# Altium footprint library SOT.PcbLib: 6 footprints
Each footprint in its own frame and in the unit in brackets; x right, y up, seen from the top. Pads: shape width x height; smd on the part's side, far side on the other; paste and mask are expansions set on the pad; w line width, h text height; cw(c..) or ccw(c..) is an arc to the next point about the centre after c.
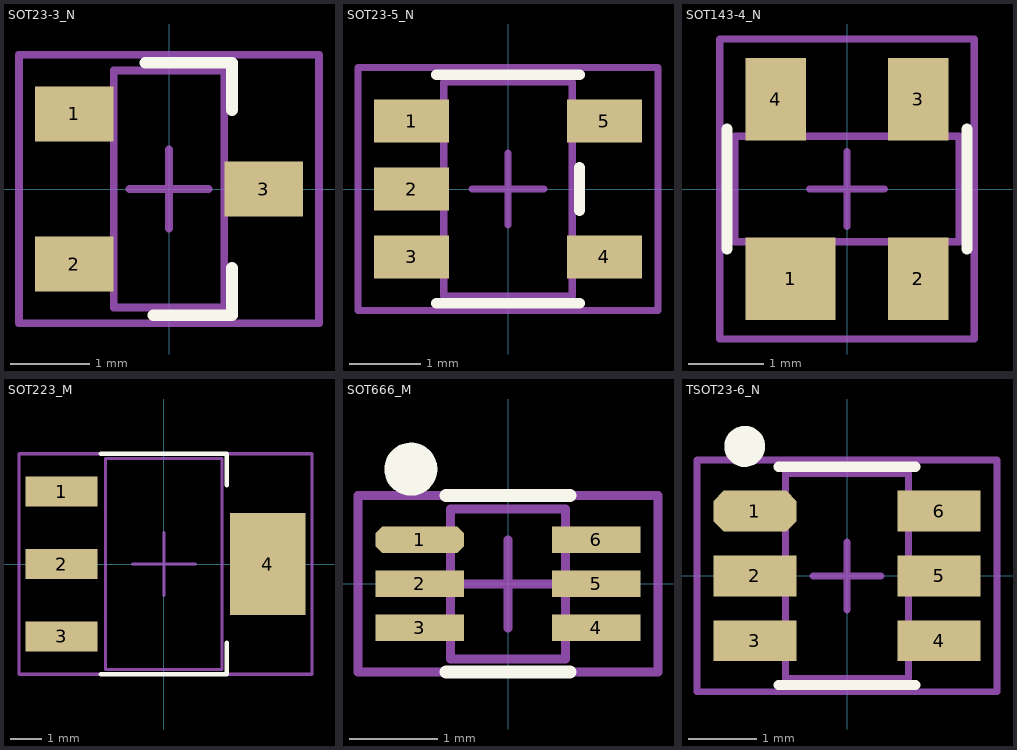
[diagram p0: the footprints below, top view; thin cyan lines are the x and y axes]

## SOT23-3_N [mm] "SOT23, 3-Leads, Body 1.4x3mm, Lead Span 2.6mm, IPC Medium Density"
height 1.1
pads (3):
  rect 1x0.7 smd: 1(-1.2,0.95) 2(-1.2,-0.95) 3(1.2,0)
Top Overlay:
  lines w0.15: -0.3,1.6 0.8,1.6 0.8,1 ; -0.2,-1.6 0.8,-1.6 0.8,-1
Mechanical 13:
  lines w0.1: -0.7,-1.5 -0.7,1.5 0.7,1.5 0.7,-1.5 -0.7,-1.5
Mechanical 15:
  lines w0.1: -0.5,0 0.5,0 ; 0,-0.5 0,0.5 ; -1.9,-1.7 1.9,-1.7 1.9,1.7 -1.9,1.7 -1.9,-1.7
3D body: height 1.1, standoff 0.1, extent -0.7,-1.5 0.7,1.5

## SOT23-5_N [mm] "SOT23, 5-Leads, Body 1.6x3mm, Lead Span 3mm, IPC Medium Density"
height 1.45
pads (5):
  rect 1.05x0.6 smd: 1(-1.35,0.95) 2(-1.35,0) 3(-1.35,-0.95) 4(1.35,-0.95) 5(1.35,0.95)
Top Overlay:
  lines w0.15: -1,-1.6 1,-1.6 ; -1,1.6 1,1.6 ; 1,-0.3 1,0.3
Mechanical 13:
  lines w0.1: -0.9,-1.5 0.9,-1.5 0.9,1.5 -0.9,1.5 -0.9,-1.5
Mechanical 15:
  lines w0.1: -0.5,0 0.5,0 ; 0,-0.5 0,0.5 ; -2.1,-1.7 2.1,-1.7 2.1,1.7 -2.1,1.7 -2.1,-1.7
3D body: height 1.45, standoff 0.15, extent -0.9,-1.5 0.9,1.5

## SOT143-4_N [mm] "SOT143, 4-Leads, Body 1.4x3mm, Lead Span 1.9mm, IPC Medium Density"
height 1.1
pads (4):
  rect 1.2x1.1 smd: 1(-0.75,-1.2)
  rect 0.8x1.1 smd: 2(0.95,-1.2) 3(0.95,1.2) 4(-0.95,1.2)
Top Overlay:
  lines w0.15: -1.6,-0.8 -1.6,0.8 ; 1.6,-0.8 1.6,0.8
Mechanical 13:
  lines w0.1: -1.5,-0.7 1.5,-0.7 1.5,0.7 -1.5,0.7 -1.5,-0.7
Mechanical 15:
  lines w0.1: -0.5,0 0.5,0 ; 0,-0.5 0,0.5 ; -1.7,-2 -1.7,2 1.7,2 1.7,-2 -1.7,-2
3D body: height 1.1, standoff 0.1, extent -1.5,-0.7 1.5,0.7

## SOT223_M [mm] "SOT223, 4-Leads, Body 6.5x3.5mm, Pitch 2.3mm, Lead Span 7mm, IPC Low Density"
height 1.8
pads (4):
  rect 2.3x0.95 smd: 1(-3.25,2.3) 2(-3.25,0) 3(-3.25,-2.3)
  rect 2.4x3.25 smd: 4(3.3,0)
Top Overlay:
  lines w0.15: -2,-3.5 2,-3.5 2,-2.5 ; -2,3.5 2,3.5 2,2.5
Mechanical 13:
  lines w0.1: -1.85,-3.35 -1.85,3.35 1.85,3.35 1.85,-3.35 -1.85,-3.35
Mechanical 15:
  lines w0.1: -1,0 1,0 ; 0,-1 0,1 ; -4.6,-3.5 4.7,-3.5 4.7,3.5 -4.6,3.5 -4.6,-3.5
3D body: height 1.7, standoff 0.1, extent -1.85,-3.35 1.85,3.35

## SOT666_M [mm] "SOT666, 6-Leads, Pitch 0.5mm, Body 1.3x1.7mm, Lead Span 1.7mm, IPC Low Density"
height 0.6
pads (6):
  oct 1x0.3 smd paste-0.025 mask+0.05: 1(-1,0.5)
  rect 1x0.3 smd paste-0.025 mask+0.05: 2(-1,0) 3(-1,-0.5) 4(1,-0.5) 5(1,0) 6(1,0.5)
Top Overlay:
  circle w0.3: c-1.1,1.3 r0.15
  lines w0.15: -0.7,-1 0.7,-1 ; -0.7,1 0.7,1
Mechanical 13:
  lines w0.1: -0.65,-0.85 0.65,-0.85 0.65,0.85 -0.65,0.85 -0.65,-0.85
Mechanical 15:
  lines w0.1: -0.5,0 0.5,0 ; 0,-0.5 0,0.5 ; -1.7,-1 1.7,-1 1.7,1 -1.7,1 -1.7,-1
3D body: height 0.6, standoff 0, extent -0.65,-0.85 0.65,0.85

## TSOT23-6_N [mm] "TSOT23, 6-Leads, Body 1.8x3mm, Lead Span 3mm, IPC Medium Density"
height 1
pads (6):
  oct 1.22x0.6 smd: 1(-1.35,0.95)
  rect 1.22x0.6 smd: 2(-1.35,0) 3(-1.35,-0.95) 4(1.35,-0.95) 5(1.35,0) 6(1.35,0.95)
Top Overlay:
  circle w0.3: c-1.5,1.9 r0.15
  lines w0.15: -1,-1.6 1,-1.6 ; -1,1.6 1,1.6
Mechanical 13:
  lines w0.1: -0.9,-1.5 -0.9,1.5 0.9,1.5 0.9,-1.5 -0.9,-1.5
Mechanical 15:
  lines w0.1: -0.5,0 0.5,0 ; 0,-0.5 0,0.5 ; -2.2,-1.7 -2.2,1.7 2.2,1.7 2.2,-1.7 -2.2,-1.7
3D body: height 1, standoff 0, extent -0.9,-1.5 0.9,1.5